# EAGLE library part SN65HVD23 (library digital_dash)
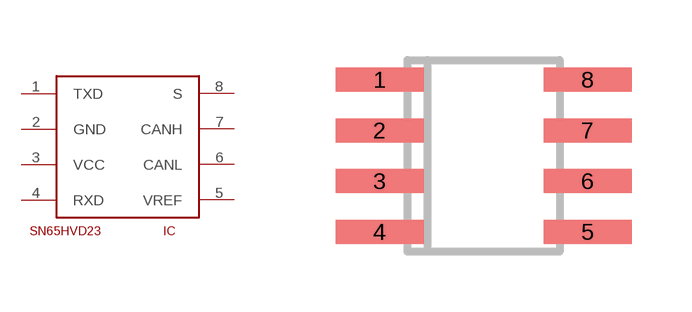
[diagram p14: symbol with the pads of SO08; footprint SO08]

Designator prefix IC

## SN65HVD23, SN65HVD230D  [SO08]
1  TXD
2  GND
3  VCC
4  RXD
5  VREF
6  CANL
7  CANH
8  S

## Footprint SO08 (pad centres in mm)
Small Outline Package 8 NS Package M08A
smd 2.2 x 0.6: 1 -2.6,1.905; 2 -2.6,0.635; 3 -2.6,-0.635; 4 -2.6,-1.905; 5 2.6,-1.905; 6 2.6,-0.635; 7 2.6,0.635; 8 2.6,1.905